# EAGLE library part PIC32MX270F256D (library MCE_Microcontroladores)
PIC32MX270F256D
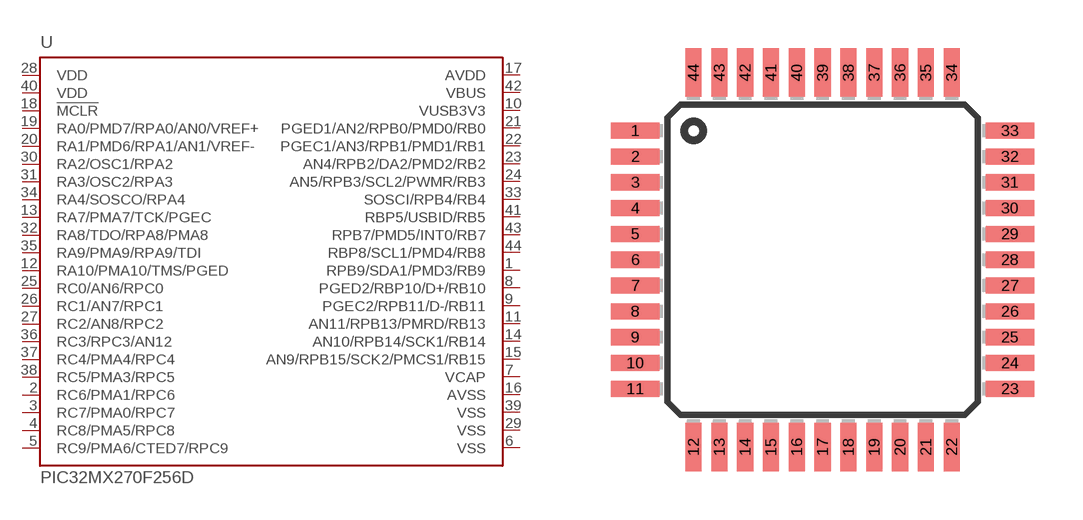
[diagram p3: symbol with the pads of TQFP44; footprint TQFP44]

Designator prefix U

## PIC32MX270F256DTQFP44  [TQFP44]
1  RPB9/SDA1/PMD3/RB9
2  RC6/PMA1/RPC6
3  RC7/PMA0/RPC7
4  RC8/PMA5/RPC8
5  RC9/PMA6/CTED7/RPC9
6  VSS  pwr
7  VCAP  pwr
8  PGED2/RBP10/D+/RB10
9  PGEC2/RPB11/D-/RB11
10  VUSB3V3  pwr
11  AN11/RPB13/PMRD/RB13
12  RA10/PMA10/TMS/PGED
13  RA7/PMA7/TCK/PGEC
14  AN10/RPB14/SCK1/RB14
15  AN9/RPB15/SCK2/PMCS1/RB15
16  AVSS  pwr
17  AVDD  pwr
18  !MCLR!  in
19  RA0/PMD7/RPA0/AN0/VREF+
20  RA1/PMD6/RPA1/AN1/VREF-
21  PGED1/AN2/RPB0/PMD0/RB0
22  PGEC1/AN3/RPB1/PMD1/RB1
23  AN4/RPB2/DA2/PMD2/RB2
24  AN5/RPB3/SCL2/PWMR/RB3
25  RC0/AN6/RPC0  in
26  RC1/AN7/RPC1  out
27  RC2/AN8/RPC2
28  VDD  pwr
29  VSS  pwr
30  RA2/OSC1/RPA2
31  RA3/OSC2/RPA3
32  RA8/TDO/RPA8/PMA8
33  SOSCI/RPB4/RB4
34  RA4/SOSCO/RPA4
35  RA9/PMA9/RPA9/TDI
36  RC3/RPC3/AN12
37  RC4/PMA4/RPC4
38  RC5/PMA3/RPC5
39  VSS  pwr
40  VDD  pwr
41  RBP5/USBID/RB5
42  VBUS  pwr
43  RPB7/PMD5/INT0/RB7
44  RBP8/SCL1/PMD4/RB8

## Footprint TQFP44 (pad centres in mm)
Thin Quad Flat Pack package type TQ
smd 1.5 x 0.5: 1 -5.8,4; 2 -5.8,3.2; 3 -5.8,2.4; 4 -5.8,1.6; 5 -5.8,0.8; 6 -5.8,0; 7 -5.8,-0.8; 8 -5.8,-1.6; 9 -5.8,-2.4; 10 -5.8,-3.2; 11 -5.8,-4; 23 5.8,-4; 24 5.8,-3.2; 25 5.8,-2.4; 26 5.8,-1.6; 27 5.8,-0.8; 28 5.8,0; 29 5.8,0.8; 30 5.8,1.6; 31 5.8,2.4; 32 5.8,3.2; 33 5.8,4
smd 0.5 x 1.5: 12 -4,-5.8; 13 -3.2,-5.8; 14 -2.4,-5.8; 15 -1.6,-5.8; 16 -0.8,-5.8; 17 0,-5.8; 18 0.8,-5.8; 19 1.6,-5.8; 20 2.4,-5.8; 21 3.2,-5.8; 22 4,-5.8; 34 4,5.8; 35 3.2,5.8; 36 2.4,5.8; 37 1.6,5.8; 38 0.8,5.8; 39 0,5.8; 40 -0.8,5.8; 41 -1.6,5.8; 42 -2.4,5.8; 43 -3.2,5.8; 44 -4,5.8